# Altium integrated library Vishay Sprague Tantalum Chip Capacitor.IntLib: 116 symbols (part 2 of 2)
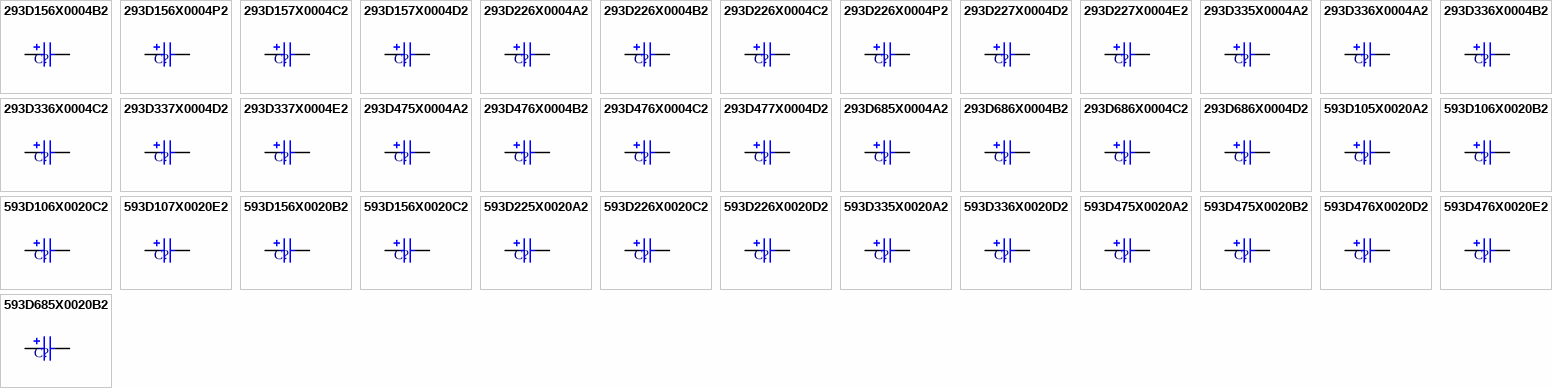
[diagram p3: symbols 293D156X0004B2 to 593D685X0020B2]

## 593D226X0020C2
designator C?
Tantamount Commercial, Surface Mount Solid Tantalum Chip Capacitor for Switch Mode Power Supplies and Converters: 22uF, 20% Tolerance, 20 WVDC @ +85°C, Surge = 26V; Note: See Data Sheet for full range of components; Published: 19-Mar-2004; DatasheetDocument: 04-Mar-2003; PackageReference: 6032; Publisher: Altium Limited; Code_JEITA: 6032; ComponentLink1Description: Manufacturer Link; ComponentLink1URL: http://www.vishay.com/; ComponentLink2Description: Datasheet; ComponentLink2URL: http://www.vishay.com/docs/40005/593.pdf; Value: 22uF
footprint 6032 (Capacitor, SM Tantalum; Body 6.0 x 3.2 mm (LxW typ))
simulation model CAP (Capacitor)
signal-integrity model 593D226X0020C2
pins: 1, 2
1 alternate drawing of the same symbol

## 593D226X0020D2
designator C?
Tantamount Commercial, Surface Mount Solid Tantalum Chip Capacitor for Switch Mode Power Supplies and Converters: 22uF, 20% Tolerance, 20 WVDC @ +85°C, Surge = 26V; Note: See Data Sheet for full range of components; Published: 19-Mar-2004; DatasheetDocument: 04-Mar-2003; PackageReference: 7343; Publisher: Altium Limited; Code_JEITA: 7343; ComponentLink1Description: Manufacturer Link; ComponentLink1URL: http://www.vishay.com/; ComponentLink2Description: Datasheet; ComponentLink2URL: http://www.vishay.com/docs/40005/593.pdf; Value: 22uF
footprint 7343 (Capacitor, SM Tantalum; Body 7.3 x 4.3 mm (LxW typ))
simulation model CAP (Capacitor)
signal-integrity model 593D226X0020D2
pins: 1, 2
1 alternate drawing of the same symbol

## 593D335X0020A2
designator C?
Tantamount Commercial, Surface Mount Solid Tantalum Chip Capacitor for Switch Mode Power Supplies and Converters: 3.3uF, 20% Tolerance, 20 WVDC @ +85°C, Surge = 26V; Note: See Data Sheet for full range of components; Published: 19-Mar-2004; DatasheetDocument: 04-Mar-2003; PackageReference: 3216; Publisher: Altium Limited; Code_JEITA: 3216; ComponentLink1Description: Manufacturer Link; ComponentLink1URL: http://www.vishay.com/; ComponentLink2Description: Datasheet; ComponentLink2URL: http://www.vishay.com/docs/40005/593.pdf; Value: 3.3uF
footprint 3216 (Capacitor, SM Tantalum; Body 3.2 x 1.6 mm (LxW typ))
simulation model CAP (Capacitor)
signal-integrity model 593D335X0020A2
pins: 1, 2
1 alternate drawing of the same symbol

## 593D336X0020D2
designator C?
Tantamount Commercial, Surface Mount Solid Tantalum Chip Capacitor for Switch Mode Power Supplies and Converters: 33uF, 20% Tolerance, 20 WVDC @ +85°C, Surge = 26V; Note: See Data Sheet for full range of components; Published: 19-Mar-2004; DatasheetDocument: 04-Mar-2003; PackageReference: 7343; Publisher: Altium Limited; Code_JEITA: 7343; ComponentLink1Description: Manufacturer Link; ComponentLink1URL: http://www.vishay.com/; ComponentLink2Description: Datasheet; ComponentLink2URL: http://www.vishay.com/docs/40005/593.pdf; Value: 33uF
footprint 7343 (Capacitor, SM Tantalum; Body 7.3 x 4.3 mm (LxW typ))
simulation model CAP (Capacitor)
signal-integrity model 593D336X0020D2
pins: 1, 2
1 alternate drawing of the same symbol

## 593D475X0020A2
designator C?
Tantamount Commercial, Surface Mount Solid Tantalum Chip Capacitor for Switch Mode Power Supplies and Converters: 4.7uF, 20% Tolerance, 20 WVDC @ +85°C, Surge = 26V; Note: See Data Sheet for full range of components; Published: 19-Mar-2004; DatasheetDocument: 04-Mar-2003; PackageReference: 3216; Publisher: Altium Limited; Code_JEITA: 3216; ComponentLink1Description: Manufacturer Link; ComponentLink1URL: http://www.vishay.com/; ComponentLink2Description: Datasheet; ComponentLink2URL: http://www.vishay.com/docs/40005/593.pdf; Value: 4.7uF
footprint 3216 (Capacitor, SM Tantalum; Body 3.2 x 1.6 mm (LxW typ))
simulation model CAP (Capacitor)
signal-integrity model 593D475X0020A2
pins: 1, 2
1 alternate drawing of the same symbol

## 593D475X0020B2
designator C?
Tantamount Commercial, Surface Mount Solid Tantalum Chip Capacitor for Switch Mode Power Supplies and Converters: 4.7uF, 20% Tolerance, 20 WVDC @ +85°C, Surge = 26V; Note: See Data Sheet for full range of components; Published: 19-Mar-2004; DatasheetDocument: 04-Mar-2003; PackageReference: 3528; Publisher: Altium Limited; Code_JEITA: 3528; ComponentLink1Description: Manufacturer Link; ComponentLink1URL: http://www.vishay.com/; ComponentLink2Description: Datasheet; ComponentLink2URL: http://www.vishay.com/docs/40005/593.pdf; Value: 4.7uF
footprint 3528 (Capacitor, SM Tantalum; Body 3.5 x 2.8 mm (LxW typ))
simulation model CAP (Capacitor)
signal-integrity model 593D475X0020B2
pins: 1, 2
1 alternate drawing of the same symbol

## 593D476X0020D2
designator C?
Tantamount Commercial, Surface Mount Solid Tantalum Chip Capacitor for Switch Mode Power Supplies and Converters: 47uF, 20% Tolerance, 20 WVDC @ +85°C, Surge = 26V; Note: See Data Sheet for full range of components; Published: 19-Mar-2004; DatasheetDocument: 04-Mar-2003; PackageReference: 7343; Publisher: Altium Limited; Code_JEITA: 7343; ComponentLink1Description: Manufacturer Link; ComponentLink1URL: http://www.vishay.com/; ComponentLink2Description: Datasheet; ComponentLink2URL: http://www.vishay.com/docs/40005/593.pdf; Value: 47uF
footprint 7343 (Capacitor, SM Tantalum; Body 7.3 x 4.3 mm (LxW typ))
simulation model CAP (Capacitor)
signal-integrity model 593D476X0020D2
pins: 1, 2
1 alternate drawing of the same symbol

## 593D476X0020E2
designator C?
Tantamount Commercial, Surface Mount Solid Tantalum Chip Capacitor for Switch Mode Power Supplies and Converters: 47uF, 20% Tolerance, 20 WVDC @ +85°C, Surge = 26V; Note: See Data Sheet for full range of components; Published: 19-Mar-2004; DatasheetDocument: 04-Mar-2003; PackageReference: 7343H; Publisher: Altium Limited; Code_JEITA: 7343H; ComponentLink1Description: Manufacturer Link; ComponentLink1URL: http://www.vishay.com/; ComponentLink2Description: Datasheet; ComponentLink2URL: http://www.vishay.com/docs/40005/593.pdf; Value: 47uF
footprint 7343H (Capacitor, SM Tantalum; Body 7.3 x 4.3 mm (LxW typ))
simulation model CAP (Capacitor)
signal-integrity model 593D476X0020E2
pins: 1, 2
1 alternate drawing of the same symbol

## 593D685X0020B2
designator C?
Tantamount Commercial, Surface Mount Solid Tantalum Chip Capacitor for Switch Mode Power Supplies and Converters: 6.8uF, 20% Tolerance, 20 WVDC @ +85°C, Surge = 26V; Note: See Data Sheet for full range of components; Published: 19-Mar-2004; DatasheetDocument: 04-Mar-2003; PackageReference: 3528; Publisher: Altium Limited; Code_JEITA: 3528; ComponentLink1Description: Manufacturer Link; ComponentLink1URL: http://www.vishay.com/; ComponentLink2Description: Datasheet; ComponentLink2URL: http://www.vishay.com/docs/40005/593.pdf; Value: 6.8uF
footprint 3528 (Capacitor, SM Tantalum; Body 3.5 x 2.8 mm (LxW typ))
simulation model CAP (Capacitor)
signal-integrity model 593D685X0020B2
pins: 1, 2
1 alternate drawing of the same symbol

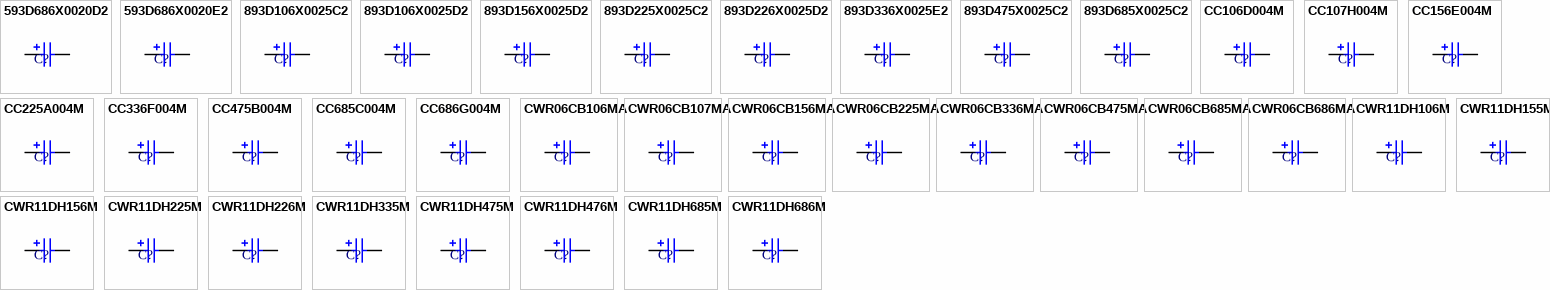
[diagram p2: symbols 593D686X0020D2 to CWR11DH686M]

## 593D686X0020D2
designator C?
Tantamount Commercial, Surface Mount Solid Tantalum Chip Capacitor for Switch Mode Power Supplies and Converters: 68uF, 20% Tolerance, 20 WVDC @ +85°C, Surge = 26V; Note: See Data Sheet for full range of components; Published: 19-Mar-2004; DatasheetDocument: 04-Mar-2003; PackageReference: 7343; Publisher: Altium Limited; Code_JEITA: 7343; ComponentLink1Description: Manufacturer Link; ComponentLink1URL: http://www.vishay.com/; ComponentLink2Description: Datasheet; ComponentLink2URL: http://www.vishay.com/docs/40005/593.pdf; Value: 68uF
footprint 7343 (Capacitor, SM Tantalum; Body 7.3 x 4.3 mm (LxW typ))
simulation model CAP (Capacitor)
signal-integrity model 593D686X0020D2
pins: 1, 2
1 alternate drawing of the same symbol

## 593D686X0020E2
designator C?
Tantamount Commercial, Surface Mount Solid Tantalum Chip Capacitor for Switch Mode Power Supplies and Converters: 68uF, 20% Tolerance, 20 WVDC @ +85°C, Surge = 26V; Note: See Data Sheet for full range of components; Published: 19-Mar-2004; DatasheetDocument: 04-Mar-2003; PackageReference: 7343H; Publisher: Altium Limited; Code_JEITA: 7343H; ComponentLink1Description: Manufacturer Link; ComponentLink1URL: http://www.vishay.com/; ComponentLink2Description: Datasheet; ComponentLink2URL: http://www.vishay.com/docs/40005/593.pdf; Value: 68uF
footprint 7343H (Capacitor, SM Tantalum; Body 7.3 x 4.3 mm (LxW typ))
simulation model CAP (Capacitor)
signal-integrity model 593D686X0020E2
pins: 1, 2
1 alternate drawing of the same symbol

## 893D106X0025C2
designator C?
Tantamount Built-In-Fuse Miniature, Molded-Case Solid Tantalum Chip Capacitor: 10uF, 20% Tolerance, 25 WVDC @ +85°C, Surge = 32V; Note: See Data Sheet for full range of components; Published: 19-Mar-2004; DatasheetDocument: 04-Feb-2003; PackageReference: 6032; Publisher: Altium Limited; Code_JEITA: 6032; ComponentLink1Description: Manufacturer Link; ComponentLink1URL: http://www.vishay.com/; ComponentLink2Description: Datasheet; ComponentLink2URL: http://www.vishay.com/docs/40008/893d.pdf; Value: 10uF
footprint 6032 (Capacitor, SM Tantalum; Body 6.0 x 3.2 mm (LxW typ))
simulation model CAP (Capacitor)
signal-integrity model 893D106X0025C2
pins: 1, 2
1 alternate drawing of the same symbol

## 893D106X0025D2
designator C?
Tantamount Built-In-Fuse Miniature, Molded-Case Solid Tantalum Chip Capacitor: 10uF, 20% Tolerance, 25 WVDC @ +85°C, Surge = 32V; Note: See Data Sheet for full range of components; Published: 19-Mar-2004; DatasheetDocument: 04-Feb-2003; PackageReference: 7343; Publisher: Altium Limited; Code_JEITA: 7343; ComponentLink1Description: Manufacturer Link; ComponentLink1URL: http://www.vishay.com/; ComponentLink2Description: Datasheet; ComponentLink2URL: http://www.vishay.com/docs/40008/893d.pdf; Value: 10uF
footprint 7343 (Capacitor, SM Tantalum; Body 7.3 x 4.3 mm (LxW typ))
simulation model CAP (Capacitor)
signal-integrity model 893D106X0025D2
pins: 1, 2
1 alternate drawing of the same symbol

## 893D156X0025D2
designator C?
Tantamount Built-In-Fuse Miniature, Molded-Case Solid Tantalum Chip Capacitor: 15uF, 20% Tolerance, 25 WVDC @ +85°C, Surge = 32V; Note: See Data Sheet for full range of components; Published: 19-Mar-2004; DatasheetDocument: 04-Feb-2003; PackageReference: 7343; Publisher: Altium Limited; Code_JEITA: 7343; ComponentLink1Description: Manufacturer Link; ComponentLink1URL: http://www.vishay.com/; ComponentLink2Description: Datasheet; ComponentLink2URL: http://www.vishay.com/docs/40008/893d.pdf; Value: 15uF
footprint 7343 (Capacitor, SM Tantalum; Body 7.3 x 4.3 mm (LxW typ))
simulation model CAP (Capacitor)
signal-integrity model 893D156X0025D2
pins: 1, 2
1 alternate drawing of the same symbol

## 893D225X0025C2
designator C?
Tantamount Built-In-Fuse Miniature, Molded-Case Solid Tantalum Chip Capacitor: 2.2uF, 20% Tolerance, 25 WVDC @ +85°C, Surge = 32V; Note: See Data Sheet for full range of components; Published: 19-Mar-2004; DatasheetDocument: 04-Feb-2003; PackageReference: 6032; Publisher: Altium Limited; Code_JEITA: 6032; ComponentLink1Description: Manufacturer Link; ComponentLink1URL: http://www.vishay.com/; ComponentLink2Description: Datasheet; ComponentLink2URL: http://www.vishay.com/docs/40008/893d.pdf; Value: 2.2uF
footprint 6032 (Capacitor, SM Tantalum; Body 6.0 x 3.2 mm (LxW typ))
simulation model CAP (Capacitor)
signal-integrity model 893D225X0025C2
pins: 1, 2
1 alternate drawing of the same symbol

## 893D226X0025D2
designator C?
Tantamount Built-In-Fuse Miniature, Molded-Case Solid Tantalum Chip Capacitor: 22uF, 20% Tolerance, 25 WVDC @ +85°C, Surge = 32V; Note: See Data Sheet for full range of components; Published: 19-Mar-2004; DatasheetDocument: 04-Feb-2003; PackageReference: 7343; Publisher: Altium Limited; Code_JEITA: 7343; ComponentLink1Description: Manufacturer Link; ComponentLink1URL: http://www.vishay.com/; ComponentLink2Description: Datasheet; ComponentLink2URL: http://www.vishay.com/docs/40008/893d.pdf; Value: 22uF
footprint 7343 (Capacitor, SM Tantalum; Body 7.3 x 4.3 mm (LxW typ))
simulation model CAP (Capacitor)
signal-integrity model 893D226X0025D2
pins: 1, 2
1 alternate drawing of the same symbol

## 893D336X0025E2
designator C?
Tantamount Built-In-Fuse Miniature, Molded-Case Solid Tantalum Chip Capacitor: 33uF, 20% Tolerance, 25 WVDC @ +85°C, Surge = 32V; Note: See Data Sheet for full range of components; Published: 19-Mar-2004; DatasheetDocument: 04-Feb-2003; PackageReference: 7343H; Publisher: Altium Limited; Code_JEITA: 7343H; ComponentLink1Description: Manufacturer Link; ComponentLink1URL: http://www.vishay.com/; ComponentLink2Description: Datasheet; ComponentLink2URL: http://www.vishay.com/docs/40008/893d.pdf; Value: 33uF
footprint 7343H (Capacitor, SM Tantalum; Body 7.3 x 4.3 mm (LxW typ))
simulation model CAP (Capacitor)
signal-integrity model 893D336X0025E2
pins: 1, 2
1 alternate drawing of the same symbol

## 893D475X0025C2
designator C?
Tantamount Built-In-Fuse Miniature, Molded-Case Solid Tantalum Chip Capacitor: 4.7uF, 20% Tolerance, 25 WVDC @ +85°C, Surge = 32V; Note: See Data Sheet for full range of components; Published: 19-Mar-2004; DatasheetDocument: 04-Feb-2003; PackageReference: 6032; Publisher: Altium Limited; Code_JEITA: 6032; ComponentLink1Description: Manufacturer Link; ComponentLink1URL: http://www.vishay.com/; ComponentLink2Description: Datasheet; ComponentLink2URL: http://www.vishay.com/docs/40008/893d.pdf; Value: 4.7uF
footprint 6032 (Capacitor, SM Tantalum; Body 6.0 x 3.2 mm (LxW typ))
simulation model CAP (Capacitor)
signal-integrity model 893D475X0025C2
pins: 1, 2
1 alternate drawing of the same symbol

## 893D685X0025C2
designator C?
Tantamount Built-In-Fuse Miniature, Molded-Case Solid Tantalum Chip Capacitor: 6.8uF, 20% Tolerance, 25 WVDC @ +85°C, Surge = 32V; Note: See Data Sheet for full range of components; Published: 19-Mar-2004; DatasheetDocument: 04-Feb-2003; PackageReference: 6032; Publisher: Altium Limited; Code_JEITA: 6032; ComponentLink1Description: Manufacturer Link; ComponentLink1URL: http://www.vishay.com/; ComponentLink2Description: Datasheet; ComponentLink2URL: http://www.vishay.com/docs/40008/893d.pdf; Value: 6.8uF
footprint 6032 (Capacitor, SM Tantalum; Body 6.0 x 3.2 mm (LxW typ))
simulation model CAP (Capacitor)
signal-integrity model 893D685X0025C2
pins: 1, 2
1 alternate drawing of the same symbol

## CC106D004M
designator C?
Conformal Coated Solid Tantalum Chip Capacitor: Standard Range, 10uF, 20% Tolerance, 4 WVDC @ -55°C to +85°C, Surge = 5V; Note: See Data Sheet for full range of components; Published: 19-Mar-2004; DatasheetDocument: 21-Mar-2002; PackageReference: D; Publisher: Altium Limited; ComponentLink1Description: Manufacturer Link; ComponentLink1URL: http://www.vishay.com/; ComponentLink2Description: Datasheet; ComponentLink2URL: http://www.vishay.com/docs/43017/ccec.pdf; Value: 10uF
footprint D (Chip Capacitor; Body 3.81 x 2.54 mm (LxW typ))
simulation model CAP (Capacitor)
signal-integrity model CC106D004M
pins: 1, 2
1 alternate drawing of the same symbol

## CC107H004M
designator C?
Conformal Coated Solid Tantalum Chip Capacitor: Standard Range, 100uF, 20% Tolerance, 4 WVDC @ -55°C to +85°C, Surge = 5V; Note: See Data Sheet for full range of components; Published: 19-Mar-2004; DatasheetDocument: 21-Mar-2002; PackageReference: H; Publisher: Altium Limited; ComponentLink1Description: Manufacturer Link; ComponentLink1URL: http://www.vishay.com/; ComponentLink2Description: Datasheet; ComponentLink2URL: http://www.vishay.com/docs/43017/ccec.pdf; Value: 100uF
footprint H (Chip Capacitor; Body 7.24 x 3.81 mm (LxW typ))
simulation model CAP (Capacitor)
signal-integrity model CC107H004M
pins: 1, 2
1 alternate drawing of the same symbol

## CC156E004M
designator C?
Conformal Coated Solid Tantalum Chip Capacitor: Standard Range, 15uF, 20% Tolerance, 4 WVDC @ -55°C to +85°C, Surge = 5V; Note: See Data Sheet for full range of components; Published: 19-Mar-2004; DatasheetDocument: 21-Mar-2002; PackageReference: E; Publisher: Altium Limited; ComponentLink1Description: Manufacturer Link; ComponentLink1URL: http://www.vishay.com/; ComponentLink2Description: Datasheet; ComponentLink2URL: http://www.vishay.com/docs/43017/ccec.pdf; Value: 15uF
footprint E (Chip Capacitor; Body 5.08 x 2.54 mm (LxW typ))
simulation model CAP (Capacitor)
signal-integrity model CC156E004M
pins: 1, 2
1 alternate drawing of the same symbol

## CC225A004M
designator C?
Conformal Coated Solid Tantalum Chip Capacitor: Standard Range, 2.2uF, 20% Tolerance, 4 WVDC @ -55°C to +85°C, Surge = 5V; Note: See Data Sheet for full range of components; Published: 19-Mar-2004; DatasheetDocument: 21-Mar-2002; PackageReference: A; Publisher: Altium Limited; ComponentLink1Description: Manufacturer Link; ComponentLink1URL: http://www.vishay.com/; ComponentLink2Description: Datasheet; ComponentLink2URL: http://www.vishay.com/docs/43017/ccec.pdf; Value: 2.2uF
footprint A (Chip Capacitor; Body 2.54 x 1.27 mm (LxW typ))
simulation model CAP (Capacitor)
signal-integrity model CC225A004M
pins: 1, 2
1 alternate drawing of the same symbol

## CC336F004M
designator C?
Conformal Coated Solid Tantalum Chip Capacitor: Standard Range, 33uF, 20% Tolerance, 4 WVDC @ -55°C to +85°C, Surge = 5V; Note: See Data Sheet for full range of components; Published: 19-Mar-2004; DatasheetDocument: 21-Mar-2002; PackageReference: F; Publisher: Altium Limited; ComponentLink1Description: Manufacturer Link; ComponentLink1URL: http://www.vishay.com/; ComponentLink2Description: Datasheet; ComponentLink2URL: http://www.vishay.com/docs/43017/ccec.pdf; Value: 33uF
footprint F (Chip Capacitor; Body 5.59 x 3.43 mm (LxW typ))
simulation model CAP (Capacitor)
signal-integrity model CC336F004M
pins: 1, 2
1 alternate drawing of the same symbol

## CC475B004M
designator C?
Conformal Coated Solid Tantalum Chip Capacitor: Standard Range, 4.7uF, 20% Tolerance, 4 WVDC @ -55°C to +85°C, Surge = 5V; Note: See Data Sheet for full range of components; Published: 19-Mar-2004; DatasheetDocument: 21-Mar-2002; PackageReference: B; Publisher: Altium Limited; ComponentLink1Description: Manufacturer Link; ComponentLink1URL: http://www.vishay.com/; ComponentLink2Description: Datasheet; ComponentLink2URL: http://www.vishay.com/docs/43017/ccec.pdf; Value: 4.7uF
footprint B (Chip Capacitor; Body 3.81 x 1.27 mm (LxW typ))
simulation model CAP (Capacitor)
signal-integrity model CC475B004M
pins: 1, 2
1 alternate drawing of the same symbol

## CC685C004M
designator C?
Conformal Coated Solid Tantalum Chip Capacitor: Standard Range, 6.8uF, 20% Tolerance, 4 WVDC @ -55°C to +85°C, Surge = 5V; Note: See Data Sheet for full range of components; Published: 19-Mar-2004; DatasheetDocument: 21-Mar-2002; PackageReference: C; Publisher: Altium Limited; ComponentLink1Description: Manufacturer Link; ComponentLink1URL: http://www.vishay.com/; ComponentLink2Description: Datasheet; ComponentLink2URL: http://www.vishay.com/docs/43017/ccec.pdf; Value: 6.8uF
footprint C (Chip Capacitor; Body 5.08 x 1.27 mm (LxW typ))
simulation model CAP (Capacitor)
signal-integrity model CC685C004M
pins: 1, 2
1 alternate drawing of the same symbol

## CC686G004M
designator C?
Conformal Coated Solid Tantalum Chip Capacitor: Standard Range, 68uF, 20% Tolerance, 4 WVDC @ -55°C to +85°C, Surge = 5V; Note: See Data Sheet for full range of components; Published: 19-Mar-2004; DatasheetDocument: 21-Mar-2002; PackageReference: G; Publisher: Altium Limited; ComponentLink1Description: Manufacturer Link; ComponentLink1URL: http://www.vishay.com/; ComponentLink2Description: Datasheet; ComponentLink2URL: http://www.vishay.com/docs/43017/ccec.pdf; Value: 68uF
footprint G (Chip Capacitor; Body 6.73 x 2.79 mm (LxW typ))
simulation model CAP (Capacitor)
signal-integrity model CC686G004M
pins: 1, 2
1 alternate drawing of the same symbol

## CWR06CB106MA
designator C?
Midget Military MIL-PRF-55365/4 Qualified Solid Tantalum Chip Capacitor: 10uF, 20% Tolerance, 4 WVDC @ +85°C, Surge = 5V; Note: See Data Sheet for full range of components; Published: 19-Mar-2004; DatasheetDocument: 05-Jul-2002; PackageReference: D; Publisher: Altium Limited; ComponentLink1Description: Manufacturer Link; ComponentLink1URL: http://www.vishay.com/; ComponentLink2Description: Datasheet; ComponentLink2URL: http://www.vishay.com/docs/40009/cwr06.pdf; Value: 10uF
footprint D (Chip Capacitor; Body 3.81 x 2.54 mm (LxW typ))
simulation model CAP (Capacitor)
signal-integrity model CWR06CB106MA
pins: 1, 2
1 alternate drawing of the same symbol

## CWR06CB107MA
designator C?
Midget Military MIL-PRF-55365/4 Qualified Solid Tantalum Chip Capacitor: 100uF, 20% Tolerance, 4 WVDC @ +85°C, Surge = 5V; Note: See Data Sheet for full range of components; Published: 19-Mar-2004; DatasheetDocument: 05-Jul-2002; PackageReference: H; Publisher: Altium Limited; ComponentLink1Description: Manufacturer Link; ComponentLink1URL: http://www.vishay.com/; ComponentLink2Description: Datasheet; ComponentLink2URL: http://www.vishay.com/docs/40009/cwr06.pdf; Value: 100uF
footprint H (Chip Capacitor; Body 7.24 x 3.81 mm (LxW typ))
simulation model CAP (Capacitor)
signal-integrity model CWR06CB107MA
pins: 1, 2
1 alternate drawing of the same symbol

## CWR06CB156MA
designator C?
Midget Military MIL-PRF-55365/4 Qualified Solid Tantalum Chip Capacitor: 15uF, 20% Tolerance, 4 WVDC @ +85°C, Surge = 5V; Note: See Data Sheet for full range of components; Published: 19-Mar-2004; DatasheetDocument: 05-Jul-2002; PackageReference: E; Publisher: Altium Limited; ComponentLink1Description: Manufacturer Link; ComponentLink1URL: http://www.vishay.com/; ComponentLink2Description: Datasheet; ComponentLink2URL: http://www.vishay.com/docs/40009/cwr06.pdf; Value: 15uF
footprint E (Chip Capacitor; Body 5.08 x 2.54 mm (LxW typ))
simulation model CAP (Capacitor)
signal-integrity model CWR06CB156MA
pins: 1, 2
1 alternate drawing of the same symbol

## CWR06CB225MA
designator C?
Midget Military MIL-PRF-55365/4 Qualified Solid Tantalum Chip Capacitor: 2.2uF, 20% Tolerance, 4 WVDC @ +85°C, Surge = 5V; Note: See Data Sheet for full range of components; Published: 19-Mar-2004; DatasheetDocument: 05-Jul-2002; PackageReference: A; Publisher: Altium Limited; ComponentLink1Description: Manufacturer Link; ComponentLink1URL: http://www.vishay.com/; ComponentLink2Description: Datasheet; ComponentLink2URL: http://www.vishay.com/docs/40009/cwr06.pdf; Value: 2.2uF
footprint A (Chip Capacitor; Body 2.54 x 1.27 mm (LxW typ))
simulation model CAP (Capacitor)
signal-integrity model CWR06CB225MA
pins: 1, 2
1 alternate drawing of the same symbol

## CWR06CB336MA
designator C?
Midget Military MIL-PRF-55365/4 Qualified Solid Tantalum Chip Capacitor: 33uF, 20% Tolerance, 4 WVDC @ +85°C, Surge = 5V; Note: See Data Sheet for full range of components; Published: 19-Mar-2004; DatasheetDocument: 05-Jul-2002; PackageReference: F; Publisher: Altium Limited; ComponentLink1Description: Manufacturer Link; ComponentLink1URL: http://www.vishay.com/; ComponentLink2Description: Datasheet; ComponentLink2URL: http://www.vishay.com/docs/40009/cwr06.pdf; Value: 33uF
footprint F (Chip Capacitor; Body 5.59 x 3.43 mm (LxW typ))
simulation model CAP (Capacitor)
signal-integrity model CWR06CB336MA
pins: 1, 2
1 alternate drawing of the same symbol

## CWR06CB475MA
designator C?
Midget Military MIL-PRF-55365/4 Qualified Solid Tantalum Chip Capacitor: 4.7uF, 20% Tolerance, 4 WVDC @ +85°C, Surge = 5V; Note: See Data Sheet for full range of components; Published: 19-Mar-2004; DatasheetDocument: 05-Jul-2002; PackageReference: B; Publisher: Altium Limited; ComponentLink1Description: Manufacturer Link; ComponentLink1URL: http://www.vishay.com/; ComponentLink2Description: Datasheet; ComponentLink2URL: http://www.vishay.com/docs/40009/cwr06.pdf; Value: 4.7uF
footprint B (Chip Capacitor; Body 3.81 x 1.27 mm (LxW typ))
simulation model CAP (Capacitor)
signal-integrity model CWR06CB475MA
pins: 1, 2
1 alternate drawing of the same symbol

## CWR06CB685MA
designator C?
Midget Military MIL-PRF-55365/4 Qualified Solid Tantalum Chip Capacitor: 6.8uF, 20% Tolerance, 4 WVDC @ +85°C, Surge = 5V; Note: See Data Sheet for full range of components; Published: 19-Mar-2004; DatasheetDocument: 05-Jul-2002; PackageReference: C; Publisher: Altium Limited; ComponentLink1Description: Manufacturer Link; ComponentLink1URL: http://www.vishay.com/; ComponentLink2Description: Datasheet; ComponentLink2URL: http://www.vishay.com/docs/40009/cwr06.pdf; Value: 6.8uF
footprint C (Chip Capacitor; Body 5.08 x 1.27 mm (LxW typ))
simulation model CAP (Capacitor)
signal-integrity model CWR06CB685MA
pins: 1, 2
1 alternate drawing of the same symbol

## CWR06CB686MA
designator C?
Midget Military MIL-PRF-55365/4 Qualified Solid Tantalum Chip Capacitor: 68uF, 20% Tolerance, 4 WVDC @ +85°C, Surge = 5V; Note: See Data Sheet for full range of components; Published: 19-Mar-2004; DatasheetDocument: 05-Jul-2002; PackageReference: G; Publisher: Altium Limited; ComponentLink1Description: Manufacturer Link; ComponentLink1URL: http://www.vishay.com/; ComponentLink2Description: Datasheet; ComponentLink2URL: http://www.vishay.com/docs/40009/cwr06.pdf; Value: 68uF
footprint G (Chip Capacitor; Body 6.73 x 2.79 mm (LxW typ))
simulation model CAP (Capacitor)
signal-integrity model CWR06CB686MA
pins: 1, 2
1 alternate drawing of the same symbol

## CWR11DH106M
designator C?
Tantamount Military, Surface Mount MIL-PRF-55365/8 Qualified Solid Tantalum Chip Capacitor: 10uF, 20% Tolerance, 6 WVDC @ +85°C, Surge = 8V; Note: See Data Sheet for full range of components; Published: 19-Mar-2004; DatasheetDocument: 20-Mar-2003; PackageReference: 3528; Publisher: Altium Limited; Code_JEITA: 3528; ComponentLink1Description: Manufacturer Link; ComponentLink1URL: http://www.vishay.com/; ComponentLink2Description: Datasheet; ComponentLink2URL: http://www.vishay.com/docs/40011/cwr11.pdf; Value: 10uF
footprint 3528 (Capacitor, SM Tantalum; Body 3.5 x 2.8 mm (LxW typ))
simulation model CAP (Capacitor)
signal-integrity model CWR11DH106M
pins: 1, 2
1 alternate drawing of the same symbol

## CWR11DH155M
designator C?
Tantamount Military, Surface Mount MIL-PRF-55365/8 Qualified Solid Tantalum Chip Capacitor: 1.5uF, 20% Tolerance, 6 WVDC @ +85°C, Surge = 8V; Note: See Data Sheet for full range of components; Published: 19-Mar-2004; DatasheetDocument: 20-Mar-2003; PackageReference: 3216; Publisher: Altium Limited; Code_JEITA: 3216; ComponentLink1Description: Manufacturer Link; ComponentLink1URL: http://www.vishay.com/; ComponentLink2Description: Datasheet; ComponentLink2URL: http://www.vishay.com/docs/40011/cwr11.pdf; Value: 1.5uF
footprint 3216 (Capacitor, SM Tantalum; Body 3.2 x 1.6 mm (LxW typ))
simulation model CAP (Capacitor)
signal-integrity model CWR11DH155M
pins: 1, 2
1 alternate drawing of the same symbol

## CWR11DH156M
designator C?
Tantamount Military, Surface Mount MIL-PRF-55365/8 Qualified Solid Tantalum Chip Capacitor: 15uF, 20% Tolerance, 6 WVDC @ +85°C, Surge = 8V; Note: See Data Sheet for full range of components; Published: 19-Mar-2004; DatasheetDocument: 20-Mar-2003; PackageReference: 6032; Publisher: Altium Limited; Code_JEITA: 6032; ComponentLink1Description: Manufacturer Link; ComponentLink1URL: http://www.vishay.com/; ComponentLink2Description: Datasheet; ComponentLink2URL: http://www.vishay.com/docs/40011/cwr11.pdf; Value: 15uF
footprint 6032 (Capacitor, SM Tantalum; Body 6.0 x 3.2 mm (LxW typ))
simulation model CAP (Capacitor)
signal-integrity model CWR11DH156M
pins: 1, 2
1 alternate drawing of the same symbol

## CWR11DH225M
designator C?
Tantamount Military, Surface Mount MIL-PRF-55365/8 Qualified Solid Tantalum Chip Capacitor: 2.2uF, 20% Tolerance, 6 WVDC @ +85°C, Surge = 8V; Note: See Data Sheet for full range of components; Published: 19-Mar-2004; DatasheetDocument: 20-Mar-2003; PackageReference: 3216; Publisher: Altium Limited; Code_JEITA: 3216; ComponentLink1Description: Manufacturer Link; ComponentLink1URL: http://www.vishay.com/; ComponentLink2Description: Datasheet; ComponentLink2URL: http://www.vishay.com/docs/40011/cwr11.pdf; Value: 2.2uF
footprint 3216 (Capacitor, SM Tantalum; Body 3.2 x 1.6 mm (LxW typ))
simulation model CAP (Capacitor)
signal-integrity model CWR11DH225M
pins: 1, 2
1 alternate drawing of the same symbol

## CWR11DH226M
designator C?
Tantamount Military, Surface Mount MIL-PRF-55365/8 Qualified Solid Tantalum Chip Capacitor: 22uF, 20% Tolerance, 6 WVDC @ +85°C, Surge = 8V; Note: See Data Sheet for full range of components; Published: 19-Mar-2004; DatasheetDocument: 20-Mar-2003; PackageReference: 6032; Publisher: Altium Limited; Code_JEITA: 6032; ComponentLink1Description: Manufacturer Link; ComponentLink1URL: http://www.vishay.com/; ComponentLink2Description: Datasheet; ComponentLink2URL: http://www.vishay.com/docs/40011/cwr11.pdf; Value: 22uF
footprint 6032 (Capacitor, SM Tantalum; Body 6.0 x 3.2 mm (LxW typ))
simulation model CAP (Capacitor)
signal-integrity model CWR11DH226M
pins: 1, 2
1 alternate drawing of the same symbol

## CWR11DH335M
designator C?
Tantamount Military, Surface Mount MIL-PRF-55365/8 Qualified Solid Tantalum Chip Capacitor: 3.3uF, 20% Tolerance, 6 WVDC @ +85°C, Surge = 8V; Note: See Data Sheet for full range of components; Published: 19-Mar-2004; DatasheetDocument: 20-Mar-2003; PackageReference: 3216; Publisher: Altium Limited; Code_JEITA: 3216; ComponentLink1Description: Manufacturer Link; ComponentLink1URL: http://www.vishay.com/; ComponentLink2Description: Datasheet; ComponentLink2URL: http://www.vishay.com/docs/40011/cwr11.pdf; Value: 3.3uF
footprint 3216 (Capacitor, SM Tantalum; Body 3.2 x 1.6 mm (LxW typ))
simulation model CAP (Capacitor)
signal-integrity model CWR11DH335M
pins: 1, 2
1 alternate drawing of the same symbol

## CWR11DH475M
designator C?
Tantamount Military, Surface Mount MIL-PRF-55365/8 Qualified Solid Tantalum Chip Capacitor: 4.7uF, 20% Tolerance, 6 WVDC @ +85°C, Surge = 8V; Note: See Data Sheet for full range of components; Published: 19-Mar-2004; DatasheetDocument: 20-Mar-2003; PackageReference: 3528; Publisher: Altium Limited; Code_JEITA: 3528; ComponentLink1Description: Manufacturer Link; ComponentLink1URL: http://www.vishay.com/; ComponentLink2Description: Datasheet; ComponentLink2URL: http://www.vishay.com/docs/40011/cwr11.pdf; Value: 4.7uF
footprint 3528 (Capacitor, SM Tantalum; Body 3.5 x 2.8 mm (LxW typ))
simulation model CAP (Capacitor)
signal-integrity model CWR11DH475M
pins: 1, 2
1 alternate drawing of the same symbol

## CWR11DH476M
designator C?
Tantamount Military, Surface Mount MIL-PRF-55365/8 Qualified Solid Tantalum Chip Capacitor: 47uF, 20% Tolerance, 6 WVDC @ +85°C, Surge = 8V; Note: See Data Sheet for full range of components; Published: 19-Mar-2004; DatasheetDocument: 20-Mar-2003; PackageReference: 7343; Publisher: Altium Limited; Code_JEITA: 7343; ComponentLink1Description: Manufacturer Link; ComponentLink1URL: http://www.vishay.com/; ComponentLink2Description: Datasheet; ComponentLink2URL: http://www.vishay.com/docs/40011/cwr11.pdf; Value: 47uF
footprint 7343 (Capacitor, SM Tantalum; Body 7.3 x 4.3 mm (LxW typ))
simulation model CAP (Capacitor)
signal-integrity model CWR11DH476M
pins: 1, 2
1 alternate drawing of the same symbol

## CWR11DH685M
designator C?
Tantamount Military, Surface Mount MIL-PRF-55365/8 Qualified Solid Tantalum Chip Capacitor: 6.8uF, 20% Tolerance, 6 WVDC @ +85°C, Surge = 8V; Note: See Data Sheet for full range of components; Published: 19-Mar-2004; DatasheetDocument: 20-Mar-2003; PackageReference: 3528; Publisher: Altium Limited; Code_JEITA: 3528; ComponentLink1Description: Manufacturer Link; ComponentLink1URL: http://www.vishay.com/; ComponentLink2Description: Datasheet; ComponentLink2URL: http://www.vishay.com/docs/40011/cwr11.pdf; Value: 6.8uF
footprint 3528 (Capacitor, SM Tantalum; Body 3.5 x 2.8 mm (LxW typ))
simulation model CAP (Capacitor)
signal-integrity model CWR11DH685M
pins: 1, 2
1 alternate drawing of the same symbol

## CWR11DH686M
designator C?
Tantamount Military, Surface Mount MIL-PRF-55365/8 Qualified Solid Tantalum Chip Capacitor: 68uF, 20% Tolerance, 6 WVDC @ +85°C, Surge = 8V; Note: See Data Sheet for full range of components; Published: 19-Mar-2004; DatasheetDocument: 20-Mar-2003; PackageReference: 7343; Publisher: Altium Limited; Code_JEITA: 7343; ComponentLink1Description: Manufacturer Link; ComponentLink1URL: http://www.vishay.com/; ComponentLink2Description: Datasheet; ComponentLink2URL: http://www.vishay.com/docs/40011/cwr11.pdf; Value: 68uF
footprint 7343 (Capacitor, SM Tantalum; Body 7.3 x 4.3 mm (LxW typ))
simulation model CAP (Capacitor)
signal-integrity model CWR11DH686M
pins: 1, 2
1 alternate drawing of the same symbol